# Altium schematic symbol library 870585375004.SchLib: 1 symbol
Pins are listed as number, name and electrical type; pins without a type are passive.

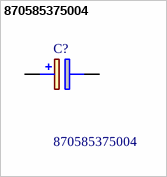
[diagram p0: symbol 870585375004]

## 870585375004
designator C?
WCAP-HTAH Al. Hybrid Polymer Capacitors HTKF100471M016DSPA9D000; THT Radial; 470 F +/-20%; 16 V(DC); 4000 h; -55C / +125C; size DxL 10.0 x 10.0; pitch 5.0; Pin  0.6; Max. Iripple 2620 mA @100 kHz; LC 75.2 A; DF 16 %; Manufacturer_Name: Wurth Elektronik; Geometry.Height: 11.5mm; Mouser Part Number: 710-870585375004; Mouser Price/Stock: https://www.mouser.co.uk/ProductDetail/Wurth-Elektronik/870585375004?qs=9vOqFld9vZXYFgU%2FkyI%2Fmg%3D%3D; Manufacturer_Part_Number: 870585375004; Datasheet Link: https://www.we-online.com/catalog/datasheet/870585375004.pdf
footprint CAPPRD500W65D1000H1150
pins: 1 +, 2 -